# EAGLE library part TLE94108EL (library TLE94108EL)
TLE94108EL Protected Eight-Fold Half-Bridge Driver SOP65P600X170-25N
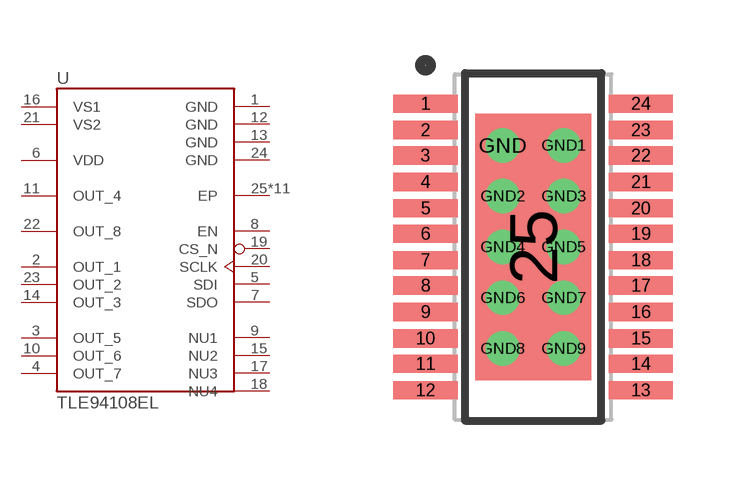
[diagram p0: symbol with the pads of SOP65P600X170-25N; footprint SOP65P600X170-25N]

Designator prefix U

## TLE94108EL  [SOP65P600X170-25N]
1  GND  pwr
2  OUT_1
3  OUT_5
4  OUT_7
5  SDI  in
6  VDD  pwr
7  SDO  out
8  EN  in
9  NU1  pas
10  OUT_6
11  OUT_4
12  GND  pwr
13  GND  pwr
14  OUT_3
15  NU2  pas
16  VS1  pwr
17  NU3  pas
18  NU4  pas
19  CS_N  in
20  SCLK  in
21  VS2  pwr
22  OUT_8
23  OUT_2
24  GND  pwr
25  EP  pwr
GND  EP  pwr
GND1  EP  pwr
GND2  EP  pwr
GND3  EP  pwr
GND4  EP  pwr
GND5  EP  pwr
GND6  EP  pwr
GND7  EP  pwr
GND8  EP  pwr
GND9  EP  pwr

## Footprint SOP65P600X170-25N (pad centres in mm)
Original name SOP65P600X170-25N Max Component Height - 1.7mm
smd 1.6 x 0.457: 1 -2.692,3.581; 2 -2.692,2.921; 3 -2.692,2.286; 4 -2.692,1.626; 5 -2.692,0.965; 6 -2.692,0.33; 7 -2.692,-0.33; 8 -2.692,-0.965; 9 -2.692,-1.626; 10 -2.692,-2.286; 11 -2.692,-2.921; 12 -2.692,-3.581; 13 2.692,-3.581; 14 2.692,-2.921; 15 2.692,-2.286; 16 2.692,-1.626; 17 2.692,-0.965; 18 2.692,-0.33; 19 2.692,0.33; 20 2.692,0.965; 21 2.692,1.626; 22 2.692,2.286; 23 2.692,2.921; 24 2.692,3.581
smd 2.896 x 6.655: 25 0,0
drill 0.35: GND -0.762,2.54; GND1 0.762,2.54; GND2 -0.762,1.27; GND3 0.762,1.27; GND4 -0.762,0; GND5 0.762,0; GND6 -0.762,-1.27; GND7 0.762,-1.27; GND8 -0.762,-2.54; GND9 0.762,-2.54